# Altium footprint library zynq_dev_V1.PcbLib: 22 footprints (part 2 of 2)
Each footprint in its own frame and in the unit in brackets; x right, y up, seen from the top. Pads: shape width x height; smd on the part's side, far side on the other; paste and mask are expansions set on the pad; w line width, h text height; cw(c..) or ccw(c..) is an arc to the next point about the centre after c.
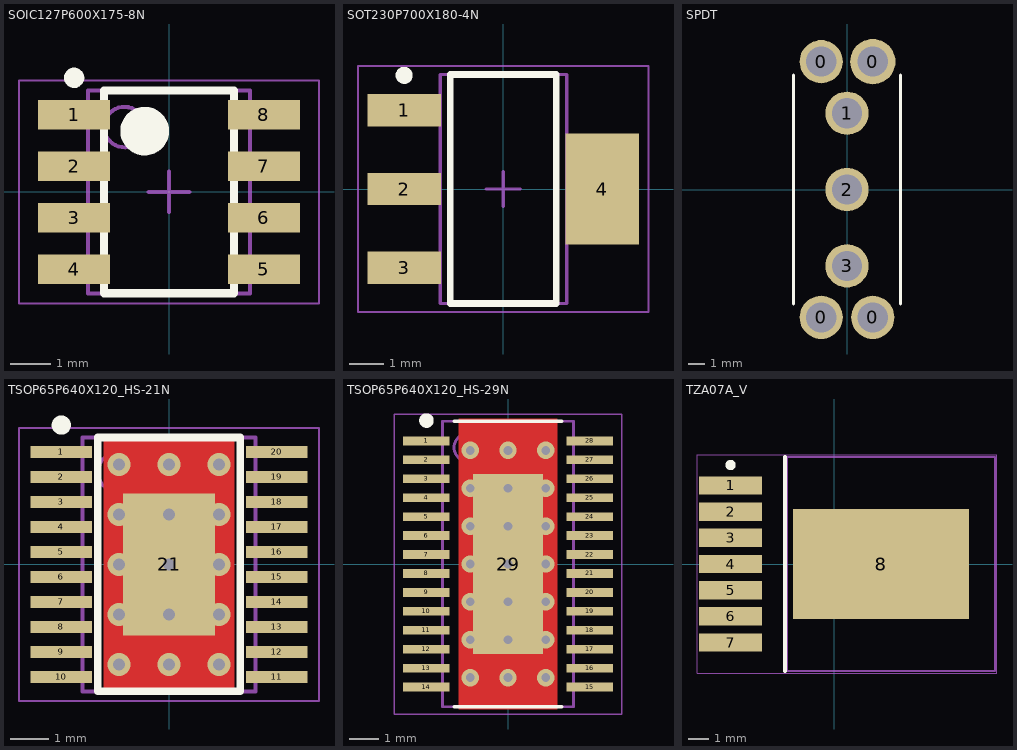
[diagram p1: the footprints below, top view; thin cyan lines are the x and y axes]

## SOIC127P600X175-8N [mm] "SOIC, 8-Leads, Body 4.90x3.90mm, Pitch 1.27mm, IPC Medium Density"
height 1.75
pads (8):
  rect 1.78x0.72 smd: 1(-2.34,1.905) 2(-2.34,0.635) 3(-2.34,-0.635) 4(-2.34,-1.905) 5(2.34,-1.905) 6(2.34,-0.635) 7(2.34,0.635) 8(2.34,1.905)
Top Overlay:
  circle w0.6: c-0.6,1.5 r0.3
  circle w0.25: c-2.34,2.815 r0.125
  lines w0.2: -1.6,-2.5 1.6,-2.5 1.6,2.5 -1.6,2.5 -1.6,-2.5
Mechanical 13:
  circle w0.1: c-1.1,1.6 r0.5
  lines w0.1: -2,-2.5 2,-2.5 2,2.5 -2,2.5 -2,-2.5
Mechanical 15:
  lines w0.05: -3.7,-2.75 3.7,-2.75 3.7,2.75 -3.7,2.75 -3.7,-2.75
  lines w0.1: -0.5,0 0.5,0 ; 0,-0.5 0,0.5
3D body: height 1.75, standoff 0.1, extent -2,-2.5 2,2.5

## SOT230P700X180-4N [mm] "SOT223, 4-Leads, Body 6.50x7.00mm (avg), Pitch 2.30mm, IPC Medium Density"
height 1.8
pads (4):
  rect 2.15x0.95 smd: 1(-2.9,2.3) 2(-2.9,0) 3(-2.9,-2.3)
  rect 2.15x3.25 smd: 4(2.9,0)
Top Overlay:
  circle w0.25: c-2.9,3.325 r0.125
  lines w0.2: -1.55,-3.35 -1.55,3.35 1.55,3.35 1.55,-3.35 -1.55,-3.35
Mechanical 13:
  lines w0.1: -1.85,-3.35 -1.85,3.35 1.85,3.35 1.85,-3.35 -1.85,-3.35
Mechanical 15:
  lines w0.05: -4.25,-3.6 -4.25,3.6 4.25,3.6 4.25,-3.6 -4.25,-3.6
  lines w0.1: -0.5,0 0.5,0 ; 0,-0.5 0,0.5
3D body: height 1.8, standoff 0.02, extent -1.85,-3.35 1.85,3.35

## SPDT [mil] "SPDT Slide Switch 6A"
pads (7):
  round 105 hole 73 paste+0: 0(-62.5,-310.04) 0(-62.5,310.04) 0(62.5,-310.04) 1(0,185.04) 2(0,0) 3(0,-185.04)
  round 110 hole 73 paste+0: 0(62.5,310.04)
Top Overlay:
  lines w8: -129.92,-277.56 -129.92,277.56 ; 129.92,-277.56 129.92,277.56

## TSOP65P640X120_HS-21N [mm] "TSOP, 20-Leads, Body 6.50x4.40mm, Pitch 0.65mm, Thermal Pad 3.70x2.40mm, IPC Medium Density"
height 1.2
pads (21):
  rect 1.6x0.3 smd: 1(-2.8,2.925) 2(-2.8,2.275) 3(-2.8,1.625) 4(-2.8,0.975) 5(-2.8,0.325) 6(-2.8,-0.325) 7(-2.8,-0.975) 8(-2.8,-1.625) 9(-2.8,-2.275) 10(-2.8,-2.925) 11(2.8,-2.925) 12(2.8,-2.275) 13(2.8,-1.625) 14(2.8,-0.975) 15(2.8,-0.325) 16(2.8,0.325) 17(2.8,0.975) 18(2.8,1.625) 19(2.8,2.275) 20(2.8,2.925)
  rect 2.4x3.7 smd: 21(0,0)
via 1.3,2.6 diameter 0.6 hole 0.3
via 1.3,1.3 diameter 0.6 hole 0.3
via -1.3,2.6 diameter 0.6 hole 0.3
via -1.3,1.3 diameter 0.6 hole 0.3
via 1.3,-2.6 diameter 0.6 hole 0.3
via 1.3,-1.3 diameter 0.6 hole 0.3
via -1.3,-2.6 diameter 0.6 hole 0.3
via -1.3,-1.3 diameter 0.6 hole 0.3
via 0,-2.6 diameter 0.6 hole 0.3
via 0,-1.3 diameter 0.6 hole 0.3
via -1.3,0 diameter 0.6 hole 0.3
via 1.3,0 diameter 0.6 hole 0.3
via 0,2.6 diameter 0.6 hole 0.3
via 0,1.3 diameter 0.6 hole 0.3
via 0,0 diameter 0.6 hole 0.3
Top Layer:
  rectangle: -1.7,-3.3 1.7,3.3
Top Overlay:
  circle w0.25: c-2.8,3.625 r0.125
  lines w0.2: -1.85,-3.3 -1.85,3.3 1.85,3.3 1.85,-3.3 -1.85,-3.3
Mechanical 13:
  circle w0.1: c-1.35,2.4 r0.5
  lines w0.1: -2.25,-3.3 -2.25,3.3 2.25,3.3 2.25,-3.3 -2.25,-3.3
Mechanical 15:
  lines w0.05: -3.9,-3.55 -3.9,3.55 3.9,3.55 3.9,-3.55 -3.9,-3.55
  lines w0.1: -0.5,0 0.5,0 ; 0,-0.5 0,0.5
3D body: height 1.2, standoff 0.05, extent -2.25,-3.3 2.25,3.3

## TSOP65P640X120_HS-29N [mm] "TSOP, 28-Leads, Body 9.70x4.40mm, Pitch 0.65mm, Thermal Pad 6.17x2.40mm, IPC Medium Density"
height 1.2
pads (29):
  rect 1.6x0.3 smd: 1(-2.8,4.225) 2(-2.8,3.575) 3(-2.8,2.925) 4(-2.8,2.275) 5(-2.8,1.625) 6(-2.8,0.975) 7(-2.8,0.325) 8(-2.8,-0.325) 9(-2.8,-0.975) 10(-2.8,-1.625) 11(-2.8,-2.275) 12(-2.8,-2.925) 13(-2.8,-3.575) 14(-2.8,-4.225) 15(2.8,-4.225) 16(2.8,-3.575) 17(2.8,-2.925) 18(2.8,-2.275) 19(2.8,-1.625) 20(2.8,-0.975) 21(2.8,-0.325) 22(2.8,0.325) 23(2.8,0.975) 24(2.8,1.625) 25(2.8,2.275) 26(2.8,2.925) 27(2.8,3.575) 28(2.8,4.225)
  rect 2.4x6.17 smd: 29(0,0)
via 1.3,2.6 diameter 0.6 hole 0.3
via 1.3,3.9 diameter 0.6 hole 0.3
via 1.3,1.3 diameter 0.6 hole 0.3
via -1.3,2.6 diameter 0.6 hole 0.3
via -1.3,3.9 diameter 0.6 hole 0.3
via -1.3,1.3 diameter 0.6 hole 0.3
via 1.3,-2.6 diameter 0.6 hole 0.3
via 1.3,-3.9 diameter 0.6 hole 0.3
via 1.3,-1.3 diameter 0.6 hole 0.3
via -1.3,-2.6 diameter 0.6 hole 0.3
via -1.3,-3.9 diameter 0.6 hole 0.3
via -1.3,-1.3 diameter 0.6 hole 0.3
via 0,3.9 diameter 0.6 hole 0.3
via 0,-3.9 diameter 0.6 hole 0.3
via 0,-2.6 diameter 0.6 hole 0.3
via 0,-1.3 diameter 0.6 hole 0.3
via -1.3,0 diameter 0.6 hole 0.3
via 1.3,0 diameter 0.6 hole 0.3
via 0,2.6 diameter 0.6 hole 0.3
via 0,1.3 diameter 0.6 hole 0.3
via 0,0 diameter 0.6 hole 0.3
Top Layer:
  rectangle: -1.7,-5 1.7,5
Top Overlay:
  circle w0.25: c-2.8,4.925 r0.125
  lines w0.127: -1.85,-4.9 1.85,-4.9 ; -1.85,4.9 1.85,4.9
Mechanical 13:
  circle w0.1: c-1.35,4 r0.5
  lines w0.1: -2.25,-4.9 2.25,-4.9 2.25,4.9 -2.25,4.9 -2.25,-4.9
Mechanical 15:
  lines w0.05: -3.9,-5.15 3.9,-5.15 3.9,5.15 -3.9,5.15 -3.9,-5.15
  lines w0.1: -0.5,0 0.5,0 ; 0,-0.5 0,0.5
3D body: height 1.2, standoff 0.05, extent -2.25,-4.9 2.25,4.9

## TZA07A_V [mm] "D2-PAK, 8-Leads, Body 9.9x10.2mm, Pitch 1.27mm, Lead Span 13.8mm, NSC Recommended"
height 4.67
pads (8):
  rect 3.06x0.89 smd paste+0: 1(-5.03,3.81) 2(-5.03,2.54) 3(-5.03,1.27) 4(-5.03,0) 5(-5.03,-1.27) 6(-5.03,-2.54) 7(-5.03,-3.81)
  rect 8.54x5.35 smd paste+0: 8(2.28,0)
Top Overlay:
  circle w0.25: c-5.03,4.805 r0.125
  lines w0.2: -2.39,-5.2 -2.39,5.2
Mechanical 13:
  lines w0.1: -2.3,-5.2 -2.3,5.2 7.801,5.2 7.801,-5.2 -2.3,-5.2
Mechanical 15:
  lines w0.05: -6.66,-5.3 -6.66,5.3 7.9,5.3 7.9,-5.3 -6.66,-5.3
  lines w0.1: -0.5,0 0.5,0 ; 0,-0.5 0,0.5
3D body: height 4.67, standoff 0, extent -2.3,-5.2 7.801,5.2